# EAGLE library part SMD_JOYSTICK (library SMD_joystick)
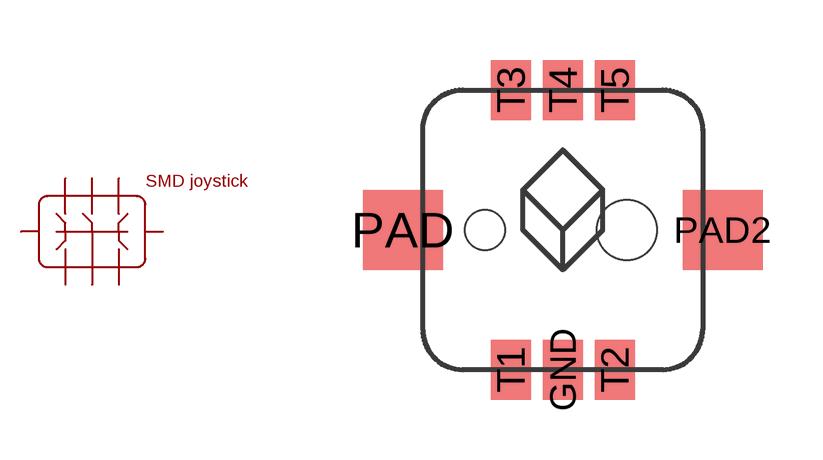
[diagram p0: symbol with the pads of SMD_JOYSTICK; footprint SMD_JOYSTICK]

Designator prefix -

## SMD_JOYSTICK  [SMD_JOYSTICK]
GND  GND
PAD  PIN
PAD2  PIN1
T1  P1
T2  P2
T3  P3
T4  P4
T5  P6

## Footprint SMD_JOYSTICK (pad centres in mm)
smd 1 x 1.5: GND 3.5,0; T1 2.2,0; T2 4.8,0; T3 2.2,7; T4 3.5,7; T5 4.8,7
smd 2 x 2: PAD -0.5,3.5; PAD2 7.5,3.5
hole 1.5 at 5.1,3.5
hole 1 at 1.55,3.5